# Altium schematic symbol library Burn Wire Dev Board.SchLib: 61 symbols
Pins are listed as number, name and electrical type; pins without a type are passive.

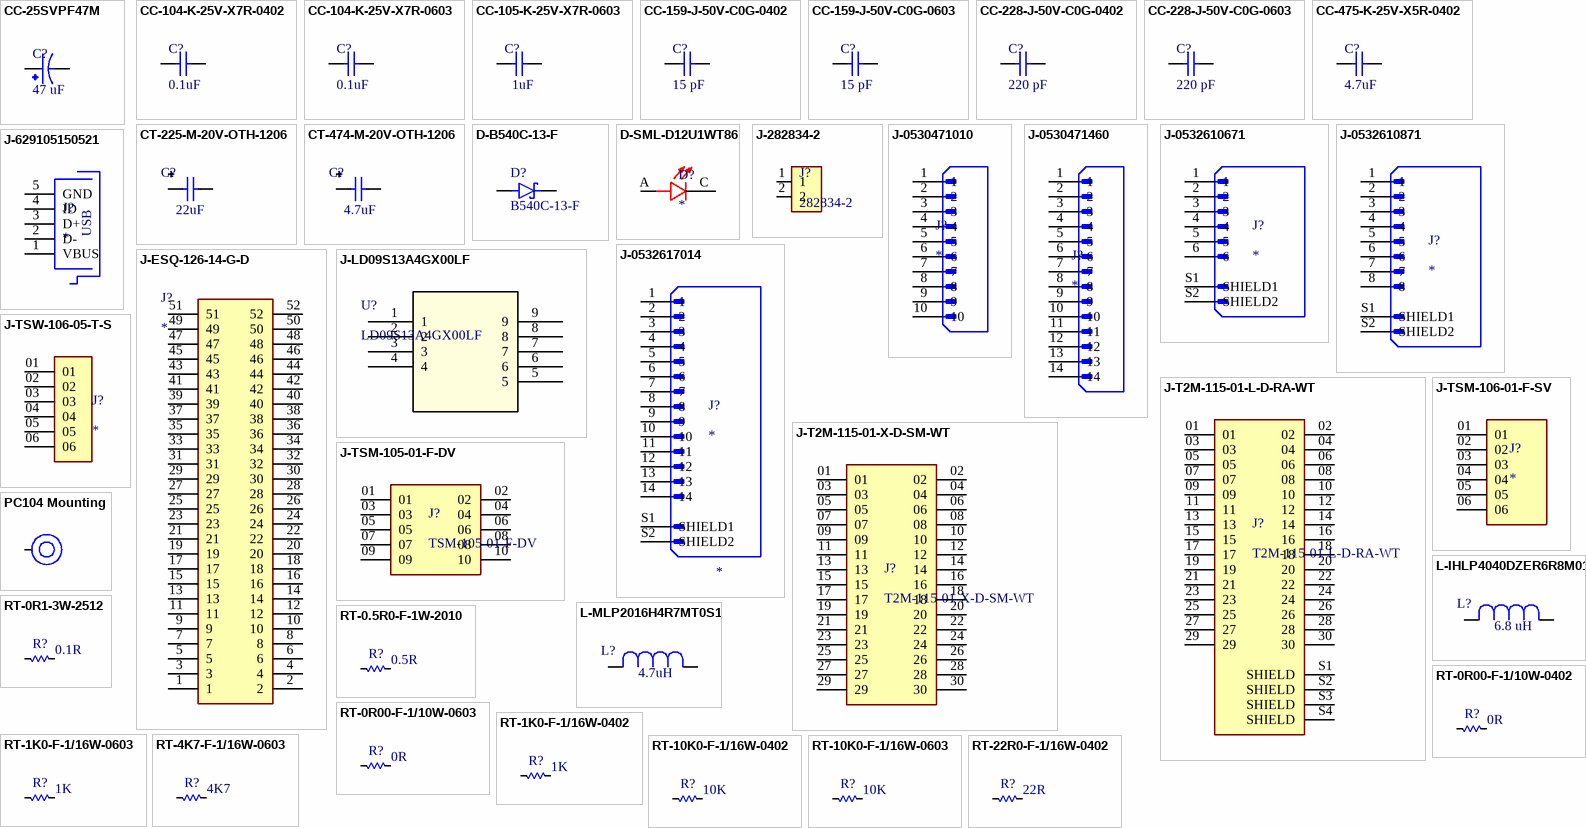
[diagram p0: symbols CC-25SVPF47M to RT-22R0-F-1/16W-0402]

## CC-25SVPF47M
designator C?, comment 47 uF
CAP ALUM POLY 47UF 20% 25V SMD; Manufacturer: Panasonic Electronic Components; Manufacturer Part #: 25SVPF47M; ComponentLink1Description: Datasheet; ComponentLink1URL: *; ComponentLink2Description: Manufacture Website; ComponentLink2URL: *; Distributor: Digikey; Distributor Part #: P16513CT-ND; Part Description: CAP ALUM POLY 47UF 20% 25V SMD; Value: 47 uF
footprint CC-25SVPF47M
pins: 1, 2

## CC-104-K-25V-X7R-0402
designator C?, comment 0.1uF
CAP CER 0.1UF 25V X7R 0402; Manufacturer: YAGEO; Manufacturer Part #: CC0402KPX7R8BB104; ComponentLink1description: Datasheet; ComponentLink1URL: https://ds.yuden.co.jp/TYCOMPAS/ut/detail?pn=TMK105BJ104KV-F%20%20&u=M; ComponentLink2description: Manufacturer Website; Distributor: Digikey; Distributor Part #: 13-CC0402KPX7R8BB104CT-ND; Part Description: CAP CER 0.1UF 25V X7R 0402; ComponentLink2URL: https://www.yuden.co.jp/or/; Value: 0.1uF
footprint 0402 (Chip Resistor, 2-Leads, Body 1,00x0,50mm, IPC Medium Density)
pins: 1, 2

## CC-104-K-25V-X7R-0603
designator C?, comment 0.1uF
0.1 µF ±10% 25V Ceramic Capacitor X7R 0603 (1608 Metric); Manufacturer: Samsung Electro-Mechanics; Manufacturer Part #: CL10B104KA8NNNC; ComponentLink1description: Datasheet; ComponentLink1URL: https://ds.yuden.co.jp/TYCOMPAS/ut/detail?pn=TMK105BJ104KV-F%20%20&u=M; ComponentLink2description: Manufacturer Website; Distributor: Digikey; Distributor Part #: 1276-1006-1-ND; Part Description: 0.1 µF ±10% 25V Ceramic Capacitor X7R 0603 (1608 Metric); ComponentLink2URL: https://www.yuden.co.jp/or/; Value: 0.1uF
footprint 0603
pins: 1, 2

## CC-105-K-25V-X7R-0603
designator C?, comment 1uF
CAP CER 1UF 25V X7R 0603; Manufacturer: Yageo; Manufacturer Part #: CC0603KRX7R8BB105; SignalCraft Part #: CC-105-K-25V-X7R-0603; ComponentLink1Description: Datasheet; ComponentLink1URL: https://www.yageo.com/upload/media/product/productsearch/datasheet/mlcc/UPY-GPHC_X7R_6.3V-to-50V_18.pdf; ComponentLink2Description: Manufacture Website; ComponentLink2URL: https://www.yageo.com/en/Home; Distributor: Digikey; Distributor Part #: 311-1802-1-ND; Part Description: CAP CER 1UF 25V X7R 0603; Value: 1uF
footprint 0603
pins: 1, 2

## CC-159-J-50V-C0G-0402
designator C?, comment 15 pF
15 pF ±1% 50V Ceramic Capacitor C0G, NP0 0402 (1005 Metric); Manufacturer: YAGEO; Manufacturer Part #: CC0402FRNPO9BN150; ComponentLink1Description: Datasheet; ComponentLink1URL: *; ComponentLink2Description: Manufacture Website; ComponentLink2URL: *; Distributor: Digikey; Distributor Part #: 311-1642-1-ND; Part Description: 15 pF ±1% 50V Ceramic Capacitor C0G, NP0 0402 (1005 Metric); Value: 15 pF
footprint 0402 (Chip Resistor, 2-Leads, Body 1,00x0,50mm, IPC Medium Density)
pins: 1, 2

## CC-159-J-50V-C0G-0603
designator C?, comment 15 pF
15 pF ±1% 50V Ceramic Capacitor C0G, NP0 0201 (0603 Metric); Manufacturer: Murata Electronics; Manufacturer Part #: GRM0335C1H150FA01D; ComponentLink1Description: Datasheet; ComponentLink1URL: *; ComponentLink2Description: Manufacture Website; ComponentLink2URL: *; Distributor: Digikey; Distributor Part #: 490-GRM0335C1H150FA01DCT-ND; Part Description: 15 pF ±1% 50V Ceramic Capacitor C0G, NP0 0201 (0603 Metric); Value: 15 pF
footprint 0603
pins: 1, 2

## CC-228-J-50V-C0G-0402
designator C?, comment 220 pF
CAP CER 220PF 50V X7R 0402; Manufacturer: YAGEO; Manufacturer Part #: CC0402KRX7R9BB221; ComponentLink1Description: Datasheet; ComponentLink1URL: *; ComponentLink2Description: Manufacture Website; ComponentLink2URL: *; Distributor: Digikey; Distributor Part #: 311-1035-1-ND; Part Description: CAP CER 220PF 50V X7R 0402; Value: 220 pF
footprint 0402 (Chip Resistor, 2-Leads, Body 1,00x0,50mm, IPC Medium Density)
pins: 1, 2

## CC-228-J-50V-C0G-0603
designator C?, comment 220 pF
15 pF ±1% 50V Ceramic Capacitor C0G, NP0 0201 (0603 Metric); Manufacturer: Samsung Electro-Mechanics; Manufacturer Part #: CL10C221JB8NNNC; ComponentLink1Description: Datasheet; ComponentLink1URL: *; ComponentLink2Description: Manufacture Website; ComponentLink2URL: *; Distributor: Digikey; Distributor Part #: 1276-1048-1-ND; Part Description: 15 pF ±1% 50V Ceramic Capacitor C0G, NP0 0201 (0603 Metric); Value: 220 pF
footprint 0603
pins: 1, 2

## CC-475-K-25V-X5R-0402
designator C?, comment 4.7uF
CAP CER 4.7UF 6.3V X5R 0402; Manufacturer: Murata Electronics; Manufacturer Part #: GRM155R60J475ME87J; ComponentLink1description: Datasheet; ComponentLink1URL: https://ds.yuden.co.jp/TYCOMPAS/ut/detail?pn=TMK105BJ104KV-F%20%20&u=M; ComponentLink2description: Manufacturer Website; Distributor: Digikey; Distributor Part #: 490-18211-1-ND; Part Description: CAP CER 4.7UF 6.3V X5R 0402; ROHS: Yes; ComponentLink2URL: https://www.yuden.co.jp/or/; Value: 4.7uF
footprint 0402 (Chip Resistor, 2-Leads, Body 1,00x0,50mm, IPC Medium Density)
pins: 1, 2

## CT-225-M-20V-OTH-1206
designator C?, comment 22uF
CAP TANT 22UF 10% 10V 1206; Manufacturer: KYOCERA AVX; Manufacturer Part #: TPSA226K010T0900; ComponentLink1Description: Datasheet; ComponentLink1URL: *; ComponentLink2Description: Manufacturer Website; ComponentLink2URL: *; Distributor: Digikey; Distributor Part #: 478-11193-1-ND; Part Description: CAP TANT 22UF 10% 10V 1206; Value: 22uF
footprint CAP TANT 1206 (A) TCJ (Cap Tant 2-Leads, EIA 1206, Metric 3216, Body 3.2x1.6mm)
pins: 1, 2

## CT-474-M-20V-OTH-1206
designator C?, comment 4.7uF
4.7 µF Molded Tantalum Capacitors 20 V 1206 (3216 Metric) 4Ohm; Manufacturer: AVX Corporation; Manufacturer Part #: TAJA475K020RNJ; ComponentLink1Description: Datasheet; ComponentLink1URL: *; ComponentLink2Description: Manufacturer Website; ComponentLink2URL: *; Distributor: Digikey; Distributor Part #: 478-1668-1-ND; Part Description: 4.7 µF Molded Tantalum Capacitors 20 V 1206 (3216 Metric) 4Ohm; Value: 4.7uF
footprint CAP TANT 1206 (A) TCJ (Cap Tant 2-Leads, EIA 1206, Metric 3216, Body 3.2x1.6mm)
pins: 1, 2

## D-B540C-13-F
designator D?, comment B540C-13-F
DIODE SCHOTTKY 40V 5A SMC; Manufacturer: Diodes Incorporated; Manufacturer Part #: B540C-13-F; Distributor Part #: B540C-FDICT-ND; Distributor: Digikey
footprint D-B540C-13-F (Footprint not found)
pins: A, C K

## D-SML-D12U1WT86
designator D?
Red 620nm LED Indication - Discrete 2.2V 0603 _1608 Metric; Manufacturer Part #: SML-D12U1WT86; Manufacturer: Rohm Semiconductor; Distributor: Digikey; Distributor Part #: SML-D12U1WT86CT-ND
footprint D-SML-D12U1WT86
pins: A, C

## J-282834-2
designator J?, comment 282834-2
TERM BLK 2P SIDE ENT 2.54MM PCB; Manufacturer: TE Connectivity AMP Connectors; Manufacturer Part #: 282834-2; Distributor Part #: A98333-ND; Distributor: Digikey
footprint J-282834-2
pins: 1, 2

## J-0530471010
designator J?
CONN HEADER VERT 10POS 1.25MM; Manufacturer: Molex; Manufacturer Part #: 0530471010; Distributor: Digikey; Distributor Part #: WM1739-ND
footprint J-0530471010
pins: 1, 2, 3, 4, 5, 6, 7, 8, 9, 10

## J-0530471460
designator J?
HDR VERT 14 CIRC 1.25 DIP TH; Manufacturer Part #: 0530471460; Manufacturer: Molex; Distributor Part #: 900-0530471460-ND; Distributor: Digikey
footprint J-0530471460
pins: 1, 2, 3, 4, 5, 6, 7, 8, 9, 10, 11, 12, 13, 14

## J-0532610671
designator J?
CONN HEADER SMD R/A 6POS 1.25MM; Manfacturer Part #: 0532610671; Manfacturer: Molex; Distributor: Digi-Key; Distributor Part #: WM7624CT-ND
footprint J-0532610671
pins: 1, 2, 3, 4, 5, 6, S1 SHIELD1, S2 SHIELD2

## J-0532610871
designator J?
CONN HEADER SMD R/A 8POS 1.25MM; Manfacturer Part #: 0532610871; Manfacturer: Molex; Distributor Part #: WM7626CT-ND; Distributor: Digi-Key
footprint J-532610871
pins: 1, 2, 3, 4, 5, 6, 7, 8, S1 SHIELD1, S2 SHIELD2

## J-0532617014
designator J?
Connector Header Surface Mount, Right Angle 14 position 0.049 (1.25mm); Manufacturer: Molex; Manufacturer Part #: 0532617014; Distributor: Digikey; Distributor Part #: 900-0532617014CT-ND; SnapEDA_Link: https://www.snapeda.com/parts/532617014/Molex/view-part/5064407/?ref=snap; 2: *
footprint J-532617014
pins: 1, 2, 3, 4, 5, 6, 7, 8, 9, 10, 11, 12, 13, 14, S1 SHIELD1, S2 SHIELD2

## J-629105150521
designator J?
CONN RCPT USB2.0 MICRO B SMD R/A; Manufacturer: Würth Elektronik; Manufacturer Part #: 629105150521; Distributor: Digikey; Distributor Part #: 732-5960-1-ND
footprint J-629105150521
pins: 1 VBUS, 2 D-, 3 D+, 4 ID, 5 GND
text: USB

## J-ESQ-126-14-G-D
designator J?
CONN SOCKET 52POS 0.1 GOLD PCB; Manufacturer: Samtec Inc.; Manufacturer Part #: ESQ-126-14-G-D; Distributor: Digikey; Distributor Part #: SAM11114-ND
footprint J-ESQ-126-14-G-D
pins: 1, 2, 3, 4, 5, 6, 7, 8, 9, 10, 11, 12, 13, 14, 15, 16, 17, 18, 19, 20, 21, 22, 23, 24, 25, 26, 27, 28, 29, 30, 31, 32, 33, 34, 35, 36, 37, 38, 39, 40, 41, 42, 43, 44, 45, 46, 47, 48, 49, 50, 51, 52

## J-LD09S13A4GX00LF
designator U?, comment LD09S13A4GX00LF
CONN D-SUB RCPT 9POS R/A SLDR; Manufacturer: Amphenol ICC (FCI); Manufacturer Part #: LD09S13A4GX00LF; Distributor: Digikey; Distributor Part #: 609-5189-ND
footprint J-LD09S13A4GX00LF
pins: 1, 2, 3, 4, 5, 6, 7, 8, 9

## J-T2M-115-01-L-D-RA-WT
designator J?, comment T2M-115-01-L-D-RA-WT
Headers & Wire Housings High Reliability Tiger Eye Discrete Wire Header, 2.00 mm Pitch; Manufacturer: Samtec Inc.; Manufacturer Part #: T2M-115-01-L-D-RA-WT; Distributor Part #: 200-T2M11501LDRAWT; Distributor: Mouser; Price: None; Value: *
footprint J-T2M-115-01-L-D-RA-WT
pins: 01, 02, 03, 04, 05, 06, 07, 08, 09, 10, 11, 12, 13, 14, 15, 16, 17, 18, 19, 20, 21, 22, 23, 24, 25, 26, 27, 28, 29, 30, S1 SHIELD, S2 SHIELD, S3 SHIELD, S4 SHIELD

## J-T2M-115-01-X-D-SM-WT
designator J?, comment T2M-115-01-X-D-SM-WT
Headers & Wire Housings High Reliability Tiger Eye Discrete Wire Header, 2.00 mm Pitch; Manufactuer: Samtec; Distributor Part #: 200-T2M11501LDSMWT; Distributor: Mouser; Manufacturer Part #: T2M-115-01-X-D-SM-WT
footprint T2M-115-01-X-D-SM-WT
pins: 01, 02, 03, 04, 05, 06, 07, 08, 09, 10, 11, 12, 13, 14, 15, 16, 17, 18, 19, 20, 21, 22, 23, 24, 25, 26, 27, 28, 29, 30

## J-TSM-105-01-F-DV
designator J?, comment TSM-105-01-F-DV
CONN HEADER SMD 10POS 2.54MM; Manufacturer: Samtec Inc.; Manufacturer Part #: TSM-105-01-F-DV; Distributor: Digikey; Distributor Part #: SAM12227-ND
footprint J-TSM-105-01-F-DV
pins: 01, 02, 03, 04, 05, 06, 07, 08, 09, 10

## J-TSM-106-01-F-SV
designator J?
CONN HEADER SMD 6POS 2.54MM; Manufacturer: Samtec Inc.; Distrbutor Part #: SAM12239-ND; Manufacturer Part #: TSM-106-01-F-SV; Distributor: Digikey
footprint J-TSM-106-01-F-SV
pins: 01, 02, 03, 04, 05, 06

## J-TSW-106-05-T-S
designator J?
CONN HEADER VERT 6POS 2.54MM; Distrbutor part #: SAM12323-ND; Manufacturer Part #: TSW-106-05-T-S; Manufacturer: Samtec; Distrbutor: None; Price: None
footprint J-TSW-106-05-T-S (Footprint not found)
pins: 01, 02, 03, 04, 05, 06

## L-IHLP4040DZER6R8M01
designator L?, comment 6.8 UH
FIXED IND 6.8UH 8A 23.3 MOHM SMD; Manufacturer: Vishay Dale; Manufacturer Part #: IHLP4040DZER6R8M01; Distributor Part #: 541-1303-1-ND; Distributor: Digikey; Value: 6.8 uH
footprint L-IHLP4040DZER6R8M01
pins: 1, 2

## L-MLP2016H4R7MT0S1
designator L?, comment 4.7uH
FIXED IND 4.7UH 1.1A 200MOHM SMD; Manufacturer: TDK; Manufacturer Part #: MLP2016H4R7MT0S1; Distributor Part #: 445-15726-1-ND; Distributor: Digikey; Value: 4.7uH
footprint 0806
pins: 1, 2

## PC104 Mounting
designator *  (value not drawn)
footprint PC104 Mounting Points
pins: 1

## RT-0.5R0-F-1W-2010
designator R?, comment 0.5R
RES 0.5 OHM 1% 1W 2010; Manufacturer: Vishay Dale; Manufacturer Part #: WSLT2010R5000FEA18; ComponentLink1description: Datasheet; ComponentLink1URL: https://www.vishay.com/docs/20035/dcrcwe3.pdf; ComponentLink2description: Manufacturer Website; Distributor: Digikey; Distributor Part #: 541-10112-1-ND; Part Description: RES 0.5 OHM 1% 1W 2010; ComponentLink2URL: https://www.vishay.com/; Value: 0.5R
footprint 2010
pins: 1, 2

## RT-0R00-F-1/10W-0402
designator R?, comment 0R
RES SMD 0 OHM JUMPER 1/10W 0402; Alternate Manufacturer: Yageo; Alternate Manufacturer Part #: RC0402JR-070RL; Manufacturer: Panasonic Electronic Components; Manufacturer Part #: ERJ-2GE0R00X; ComponentLink1description: Datasheet; ComponentLink1URL: https://industrial.panasonic.com/ww/products/resistors/chip-resistors/general-purpose-chip-resistors/models/ERJ2GE0R00X; ComponentLink2description: Manufacturer Website; Alternate Distributor Part #: 311-0.0JRCT-ND; Distributor: Digikey; Distributor Part #: P0.0JCT-ND; Part Description: RES SMD 0 OHM JUMPER 1/10W 0402; ComponentLink2URL: https://industrial.panasonic.com/ww/products/resistors/chip-resistors/general-purpose-chip-resistors/models/ERJ2GE0R00X; Value: 0R
footprint 0402 (Chip Resistor, 2-Leads, Body 1,00x0,50mm, IPC Medium Density)
pins: 1, 2

## RT-0R00-F-1/10W-0603
designator R?, comment 0R
0 Ohms Jumper 0.1W, 1/10W Chip Resistor 0603 (1608 Metric) Automotive AEC-Q200 Thick Film; Manufacturer: Stackpole Electronics Inc; Manufacturer Part #: RMCF0603ZT0R00; ComponentLink1description: Datasheet; ComponentLink1URL: https://industrial.panasonic.com/ww/products/resistors/chip-resistors/general-purpose-chip-resistors/models/ERJ2GE0R00X; ComponentLink2description: Manufacturer Website; Distributor: Digikey; Distributor Part #: RMCF0603ZT0R00CT-ND; Part Description: 0 Ohms Jumper 0.1W, 1/10W Chip Resistor 0603 (1608 Metric) Automotive AEC-Q200 Thick Film; ComponentLink2URL: https://industrial.panasonic.com/ww/products/resistors/chip-resistors/general-purpose-chip-resistors/models/ERJ2GE0R00X; Value: 0R
footprint 0603
pins: 1, 2

## RT-0R1-3W-2512
designator R?, comment 0.1R
RES 0.1 OHM 1% 3W 2512; Manufacturer: Bourns Inc.; Manufacturer Part #: CRA2512-FZ-R100ELF; ComponentLink1description: Datasheet; ComponentLink1URL: https://www.vishay.com/docs/20035/dcrcwe3.pdf; ComponentLink2description: Manufacturer Website; Distributor: Digikey; Distributor Part #: CRA2512-FZ-R100ELFCT-ND; Part Description: RES 0.1 OHM 1% 3W 2512; ComponentLink2URL: https://www.vishay.com/; Value: 0.1R
footprint 2512
pins: 1, 2

## RT-1K0-F-1/16W-0402
designator R?, comment 1K
RES 1K OHM 1% 1/16W 0402; Manufacturer: Yageo; Manufacturer Part #: RC0402FR-071KL; ComponentLink1description: Datasheet; ComponentLink1URL: https://www.vishay.com/docs/20035/dcrcwe3.pdf; ComponentLink2description: Manufacturer Website; Distributor: Digikey; Distributor Part #: 311-1.00KLRCT-ND; Part Description: RES 1K OHM 1% 1/16W 0402; ComponentLink2URL: https://www.vishay.com/; Value: 1K
footprint 0402 (Chip Resistor, 2-Leads, Body 1,00x0,50mm, IPC Medium Density)
pins: 1, 2

## RT-1K0-F-1/16W-0603
designator R?, comment 1K
RES SMD 1K OHM 1% 1/16W 0603; Manufacturer: TE Connectivity Passive Product; Manufacturer Part #: CPF0603F1K0C1; ComponentLink1description: Datasheet; ComponentLink1URL: https://www.vishay.com/docs/20035/dcrcwe3.pdf; ComponentLink2description: Manufacturer Website; Distributor: Digikey; Distributor Part #: A102226CT-ND; Part Description: RES SMD 1K OHM 1% 1/16W 0603; ComponentLink2URL: https://www.vishay.com/; Value: 1K
footprint 0603
pins: 1, 2

## RT-4K7-F-1/16W-0603
designator R?, comment 4K7
RES SMD 4.7K OHM 1% 1/10W 0603; Manufacturer: Bourns Inc.; Manufacturer Part #: CR0603-FX-4701ELF; ComponentLink1description: Datasheet; ComponentLink1URL: https://www.vishay.com/docs/20035/dcrcwe3.pdf; ComponentLink2description: Manufacturer Website; Distributor: Digikey; Distributor Part #: CR0603-FX-4701ELFCT-ND; Part Description: RES SMD 4.7K OHM 1% 1/10W 0603; ComponentLink2URL: https://www.vishay.com/; Value: 4K7
footprint 0603
pins: 1, 2

## RT-10K0-F-1/16W-0402
designator R?, comment 10K
RES SMD 10K OHM 1% 1/16W 0402; Alternate Manufacturer: Yageo; Alternate Manufacturer Part #: RC0402FR-0710KL; Manufacturer: Vishay Dale; Manufacturer Part #: CRCW040210K0FKED; ComponentLink1description: Datasheet; ComponentLink1URL: https://www.vishay.com/docs/20035/dcrcwe3.pdf; ComponentLink2description: Manufacturer Website; Alternate Distributor Part #: 311-10.0KLRCT-ND; Distributor: Digikey; Distributor Part #: 541-10.0KLCT-ND; Part Description: RES SMD 10K OHM 1% 1/16W 0402; ComponentLink2URL: https://www.vishay.com/; Value: 10K
footprint 0402 (Chip Resistor, 2-Leads, Body 1,00x0,50mm, IPC Medium Density)
pins: 1, 2

## RT-10K0-F-1/16W-0603
designator R?, comment 10K
RES 10K OHM 1% 1/8W 0603; Manufacturer: Stackpole Electronics Inc; Manufacturer Part #: RNCP0603FTD10K0; ComponentLink1description: Datasheet; ComponentLink1URL: https://www.vishay.com/docs/20035/dcrcwe3.pdf; ComponentLink2description: Manufacturer Website; Distributor: Digikey; Distributor Part #: RNCP0603FTD10K0CT-ND; Part Description: RES 10K OHM 1% 1/8W 0603; ComponentLink2URL: https://www.vishay.com/; Value: 10K
footprint 0603
pins: 1, 2

## RT-22R0-F-1/16W-0402
designator R?, comment 22R
RES SMD 22 OHM 1% 1/16W 0402; Alternate Manufacturer: Yageo; Alternate Manufacturer Part #: RC0402FR-0722RL; Manufacturer: Vishay Dale; Manufacturer Part #: CRCW040222R0FKED; ComponentLink1description: Datasheet; ComponentLink1URL: https://www.vishay.com/docs/20035/dcrcwe3.pdf; ComponentLink2description: Manufacturer Website; Alternate Distributor Part #: 311-22.0LRCT-ND; Distributor: Digikey; Distributor Part #: 541-22.0LCT-ND; Part Description: RES SMD 22 OHM 1% 1/16W 0402; ComponentLink2URL: https://www.vishay.com/; Value: 22R
footprint 0402 (Chip Resistor, 2-Leads, Body 1,00x0,50mm, IPC Medium Density)
pins: 1, 2

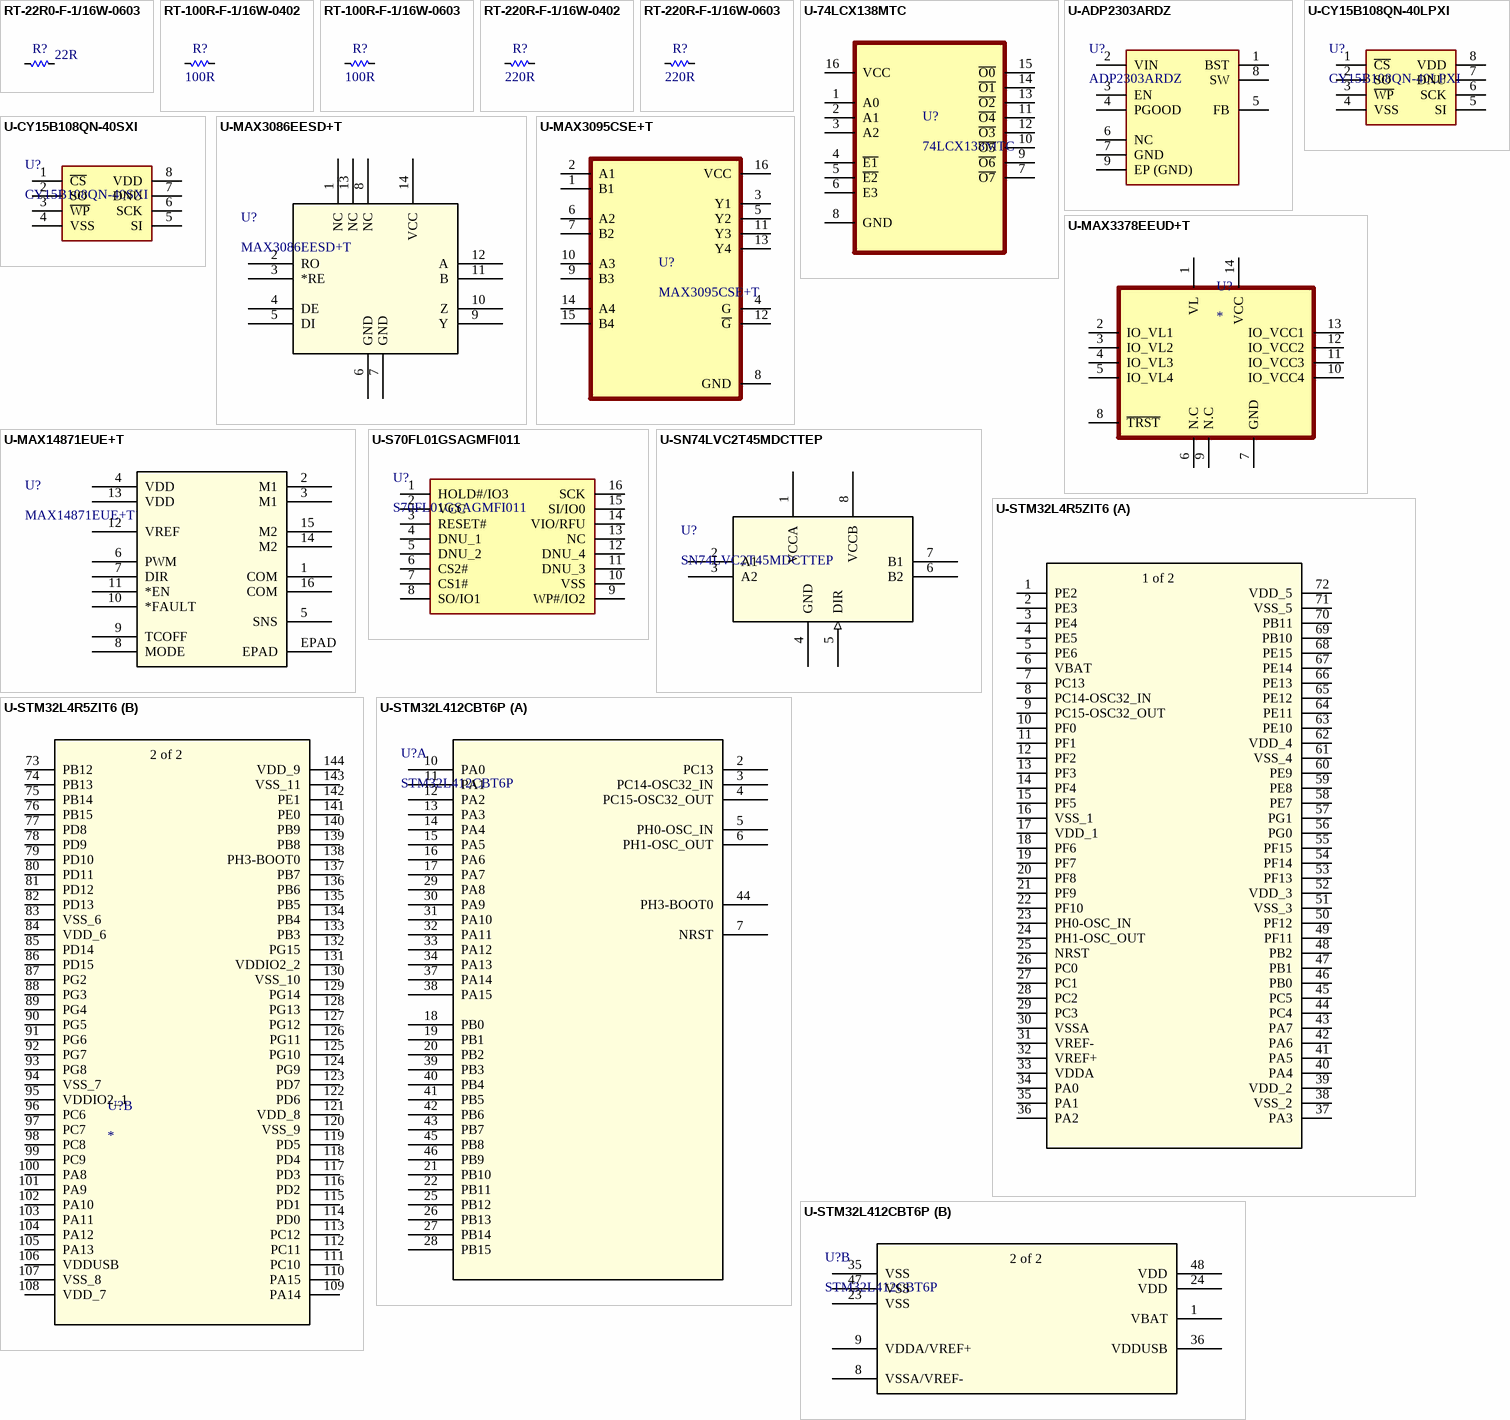
[diagram p1: symbols RT-22R0-F-1/16W-0603 to U-STM32L412CBT6P]

## RT-22R0-F-1/16W-0603
designator R?, comment 22R
22 Ohms ±0.5% 0.063W, 1/16W Chip Resistor 0603 (1608 Metric) - Thin Film; Manufacturer: Susumu; Manufacturer Part #: RR0816Q-220-D; ComponentLink1description: Datasheet; ComponentLink1URL: https://www.vishay.com/docs/20035/dcrcwe3.pdf; ComponentLink2description: Manufacturer Website; Distributor: Digikey; Distributor Part #: RR08Q22DCT-ND; Part Description: 22 Ohms ±0.5% 0.063W, 1/16W Chip Resistor 0603 (1608 Metric) - Thin Film; ComponentLink2URL: https://www.vishay.com/; Value: 22R
footprint 0603
pins: 1, 2

## RT-100R-F-1/16W-0402
designator R?, comment 100R
RES SMD 100 OHM 1% 1/16W 0402; Manufacturer: Yageo; Manufacturer Part #: RT0402FRE07100RL; Distributor: Digikey; Distributor Part #: YAG3342CT-ND; Part Description: RES SMD 100 OHM 1% 1/16W 0402; Value: 100R
footprint 0402 (Chip Resistor, 2-Leads, Body 1,00x0,50mm, IPC Medium Density)
pins: 1, 2

## RT-100R-F-1/16W-0603
designator R?, comment 100R
RES SMD 100 OHM 0.5% 1/16W 0603; Manufacturer: Susumu; Manufacturer Part #: RR08P100DCT-ND; Distributor: Digikey; Distributor Part #: RR08P100DCT-ND; Part Description: RES SMD 100 OHM 0.5% 1/16W 0603; Value: 100R
footprint 0603
pins: 1, 2

## RT-220R-F-1/16W-0402
designator R?, comment value 220R  (hidden comment: 100R)
RES 220 OHM 5% 1/16W 0402; Manufacturer: Yageo; Manufacturer Part #: RC0402JR-07220RL; Distributor: Digikey; Distributor Part #: 311-220JRCT-ND; Part Description: RES 220 OHM 5% 1/16W 0402
footprint 0402 (Chip Resistor, 2-Leads, Body 1,00x0,50mm, IPC Medium Density)
pins: 1, 2

## RT-220R-F-1/16W-0603
designator R?, comment 220R
220 Ohms ±0.5% 0.063W, 1/16W Chip Resistor 0603 (1608 Metric) - Thin Film; Manufacturer: Susumu; Manufacturer Part #: RR0816P-221-D; Distributor: Digikey; Distributor Part #: RR08P220DCT-ND; Part Description: 220 Ohms ±0.5% 0.063W, 1/16W Chip Resistor 0603 (1608 Metric) - Thin Film; Value: 220R
footprint 0603
pins: 1, 2

## U-74LCX138MTC
designator U?, comment 74LCX138MTC
IC DECODER/DEMUX 1X3:8 16TSSOP; Manufacturer: onsemi; Manufacturer Part #: 74LCX138MTC; Distributor: Digikey; Distributor Part #: 74LCX138MTC-ND
footprint U-74LCX138MTC
pins: 1 A0, 2 A1, 3 A2, 4 ~{E1}, 5 ~{E2}, 6 E3, 7 ~{O7}, 8 GND, 9 ~{O6}, 10 ~{O5}, 11 ~{O4}, 12 ~{O3}, 13 ~{O2}, 14 ~{O1}, 15 ~{O0}, 16 VCC

## U-ADP2303ARDZ
designator U?, comment ADP2303ARDZ
IC REG BUCK ADJUSTABLE 3A 8SOIC; Manufacturer: Analog Devices Inc.; Manufacturer Part #: ADP2303ARDZ; Distributor: Digikey; Distributor Part #: 505-ADP2303ARDZ-ND
footprint U-ADP2303ARDZ
pins: 1 BST, 2 VIN, 3 EN, 4 PGOOD, 5 FB, 6 NC, 7 GND, 8 SW, 9 EP (GND)

## U-CY15B108QN-40LPXI
designator U?, comment CY15B108QN-40LPXI
IC FRAM 8MBIT SPI 40MHZ 8GQFN; Manufacturer: Cypress Semiconductor; Manufacturer Part #: CY15B108QN-40LPXI; Distributor: Digikey; Distributor Part #: 428-4723-ND
footprint U-CY15B108QN-40LPXI
pins: 1 ~{CS}, 2 SO, 3 ~{WP}, 4 VSS, 5 SI, 6 SCK, 7 DNU, 8 VDD

## U-CY15B108QN-40SXI
designator U?, comment CY15B108QN-40SXI
IC FRAM 8MBIT SPI 40MHZ 8SOIC; Manufacturer: Cypress Semiconductor; Manufacturer Part #: CY15B108QN-40SXI; Distributor: Digikey; Distributor Part #: 428-4717-ND
footprint U-CY15B108QN-40SXI
pins: 1 ~{CS}, 2 SO, 3 ~{WP}, 4 VSS, 5 SI, 6 SCK, 7 DNU, 8 VDD

## U-MAX3086EESD+T
designator U?, comment MAX3086EESD+T
IC TRANSCEIVER FULL 1/1 14SOIC; Manufacturer: Maxim Integrated Products; Manufacturer Part #: MAX3086EESD+T; Distributor: Digikey; Distributor Part #: MAX3086EESD+TCT-ND; Type: DEV
footprint U-MAX3086EESD+T
pins: 1 NC, 2 RO, 3 *RE, 4 DE, 5 DI, 6 GND (power), 7 GND (power), 8 NC, 9 Y, 10 Z, 11 B, 12 A, 13 NC, 14 VCC (power)

## U-MAX3095CSE+T
designator U?, comment MAX3095CSE+T
IC RECEIVER 0/4 16SO; Manufacturer: Maxim Integrated; Distributor Part #: MAX3095CSE+TCT-ND; Distributor: Digikey; Manufacturer Part #: MAX3095CSE+T
footprint U-MAX3095CSE+T
pins: 1 B1, 2 A1, 3 Y1, 4 G, 5 Y2, 6 A2, 7 B2, 8 GND, 9 B3, 10 A3, 11 Y3, 12 ~{G}, 13 Y4, 14 A4, 15 B4, 16 VCC

## U-MAX3378EEUD+T
designator U?
IC TRNSLTR BIDIRECTIONAL 14TSSOP; Manufacturer Part #: MAX3378EEUD+T; Manufacturer: Maxim Integrated; Distributor: Digikey; Distributor Part #: MAX3378EEUD+TCT-ND
footprint U-MAX3378EEUD+T
pins: 1 VL (power), 2 IO_VL1, 3 IO_VL2, 4 IO_VL3, 5 IO_VL4, 6 N.C, 7 GND, 8 ~{TRST}, 9 N.C, 10 IO_VCC4, 11 IO_VCC3, 12 IO_VCC2, 13 IO_VCC1, 14 VCC (power)

## U-MAX14871EUE+T
designator U?, comment MAX14871EUE+T
IC MOTOR DRIVER 4.5V-36V 16TSSOP; Manufacturer: Maxim Integrated Products; Manufacturer Part #: MAX14871EUE+T; Distributor Part #: MAX14871EUE+CT-ND; Distributor: Digikey
footprint U-MAX14871EUE+T
pins: 1 COM, 2 M1, 3 M1, 4 VDD, 5 SNS, 6 PWM, 7 DIR, 8 MODE, 9 TCOFF, 10 *FAULT, 11 *EN, 12 VREF, 13 VDD, 14 M2, 15 M2, 16 COM, EPAD

## U-S70FL01GSAGMFI011
designator U?, comment S70FL01GSAGMFI011
IC FLASH 1GBIT SPI/QUAD 16SOIC; Manufacturer: Cypress Semiconductor; Manufacturer Part #: S70FL01GSAGMFI011; Distributor: Digikey; Distributor Part #: 1274-1092-ND
footprint U-S70FL01GSAGMFI011
pins: 1 HOLD#/IO3, 2 VCC, 3 RESET#, 4 DNU_1, 5 DNU_2, 6 CS2#, 7 CS1#, 8 SO/IO1, 9 WP#/IO2, 10 VSS, 11 DNU_3, 12 DNU_4, 13 NC, 14 VIO/RFU, 15 SI/IO0, 16 SCK

## U-SN74LVC2T45MDCTTEP
designator U?, comment SN74LVC2T45MDCTTEP
IC TRNSLTR BIDIRECTIONAL SM8; Manufactuer: Texas Instruments; Distributor: Digikey; Manufacturer Part Number: SN74LVC2T45MDCTTEP; Distributor Part Number: 296-23952-1-ND; Type: DEV
footprint U-SN74LVC2T45MDCTTEP
pins: 1 VCCA (power), 2 A1, 3 A2, 4 GND (power), 5 DIR (in), 6 B2, 7 B1, 8 VCCB (power)

## U-STM32L4R5ZIT6
designator U?
IC MCU 32BIT 2MB FLASH 144LQFP; Manufacturer: STMicroelectronics; Manufacturer Part #: STM32L4R5ZIT6; Distributor: Mouser; Mouser Part Number: 511-STM32L4R5ZIT6P
footprint U-STM32L4R5ZIT6
part A pins: 1 PE2, 2 PE3, 3 PE4, 4 PE5, 5 PE6, 6 VBAT, 7 PC13, 8 PC14-OSC32_IN, 9 PC15-OSC32_OUT, 10 PF0, 11 PF1, 12 PF2, 13 PF3, 14 PF4, 15 PF5, 16 VSS_1, 17 VDD_1, 18 PF6, 19 PF7, 20 PF8, 21 PF9, 22 PF10, 23 PH0-OSC_IN, 24 PH1-OSC_OUT, 25 NRST, 26 PC0, 27 PC1, 28 PC2, 29 PC3, 30 VSSA, 31 VREF-, 32 VREF+, 33 VDDA, 34 PA0, 35 PA1, 36 PA2, 37 PA3, 38 VSS_2, 39 VDD_2, 40 PA4, 41 PA5, 42 PA6, 43 PA7, 44 PC4, 45 PC5, 46 PB0, 47 PB1, 48 PB2, 49 PF11, 50 PF12, 51 VSS_3, 52 VDD_3, 53 PF13, 54 PF14, 55 PF15, 56 PG0, 57 PG1, 58 PE7, 59 PE8, 60 PE9, 61 VSS_4, 62 VDD_4, 63 PE10, 64 PE11, 65 PE12, 66 PE13, 67 PE14, 68 PE15, 69 PB10, 70 PB11, 71 VSS_5, 72 VDD_5
part B pins: 73 PB12, 74 PB13, 75 PB14, 76 PB15, 77 PD8, 78 PD9, 79 PD10, 80 PD11, 81 PD12, 82 PD13, 83 VSS_6, 84 VDD_6, 85 PD14, 86 PD15, 87 PG2, 88 PG3, 89 PG4, 90 PG5, 91 PG6, 92 PG7, 93 PG8, 94 VSS_7, 95 VDDIO2_1, 96 PC6, 97 PC7, 98 PC8, 99 PC9, 100 PA8, 101 PA9, 102 PA10, 103 PA11, 104 PA12, 105 PA13, 106 VDDUSB, 107 VSS_8, 108 VDD_7, 109 PA14, 110 PA15, 111 PC10, 112 PC11, 113 PC12, 114 PD0, 115 PD1, 116 PD2, 117 PD3, 118 PD4, 119 PD5, 120 VSS_9, 121 VDD_8, 122 PD6, 123 PD7, 124 PG9, 125 PG10, 126 PG11, 127 PG12, 128 PG13, 129 PG14, 130 VSS_10, 131 VDDIO2_2, 132 PG15, 133 PB3, 134 PB4, 135 PB5, 136 PB6, 137 PB7, 138 PH3-BOOT0, 139 PB8, 140 PB9, 141 PE0, 142 PE1, 143 VSS_11, 144 VDD_9
part A text: 1 of 2
part B text: 2 of 2

## U-STM32L412CBT6P
designator U?, comment STM32L412CBT6P
IC MCU 32BIT 128KB FLASH 48LQFP; Manufacturer: STMicroelectronics; Manufacturer Part #: STM32L412CBT6P; Distributor: Digikey; Distributor Part #: STM32L412CBT6P-ND
footprint U-STM32L412CBT6P
part A pins: 2 PC13, 3 PC14-OSC32_IN, 4 PC15-OSC32_OUT, 5 PH0-OSC_IN, 6 PH1-OSC_OUT, 7 NRST, 10 PA0, 11 PA1, 12 PA2, 13 PA3, 14 PA4, 15 PA5, 16 PA6, 17 PA7, 18 PB0, 19 PB1, 20 PB2, 21 PB10, 22 PB11, 25 PB12, 26 PB13, 27 PB14, 28 PB15, 29 PA8, 30 PA9, 31 PA10, 32 PA11, 33 PA12, 34 PA13, 37 PA14, 38 PA15, 39 PB3, 40 PB4, 41 PB5, 42 PB6, 43 PB7, 44 PH3-BOOT0, 45 PB8, 46 PB9
part B pins: 1 VBAT, 8 VSSA/VREF-, 9 VDDA/VREF+, 23 VSS, 24 VDD, 35 VSS, 36 VDDUSB, 47 VSS, 48 VDD
part B text: 2 of 2

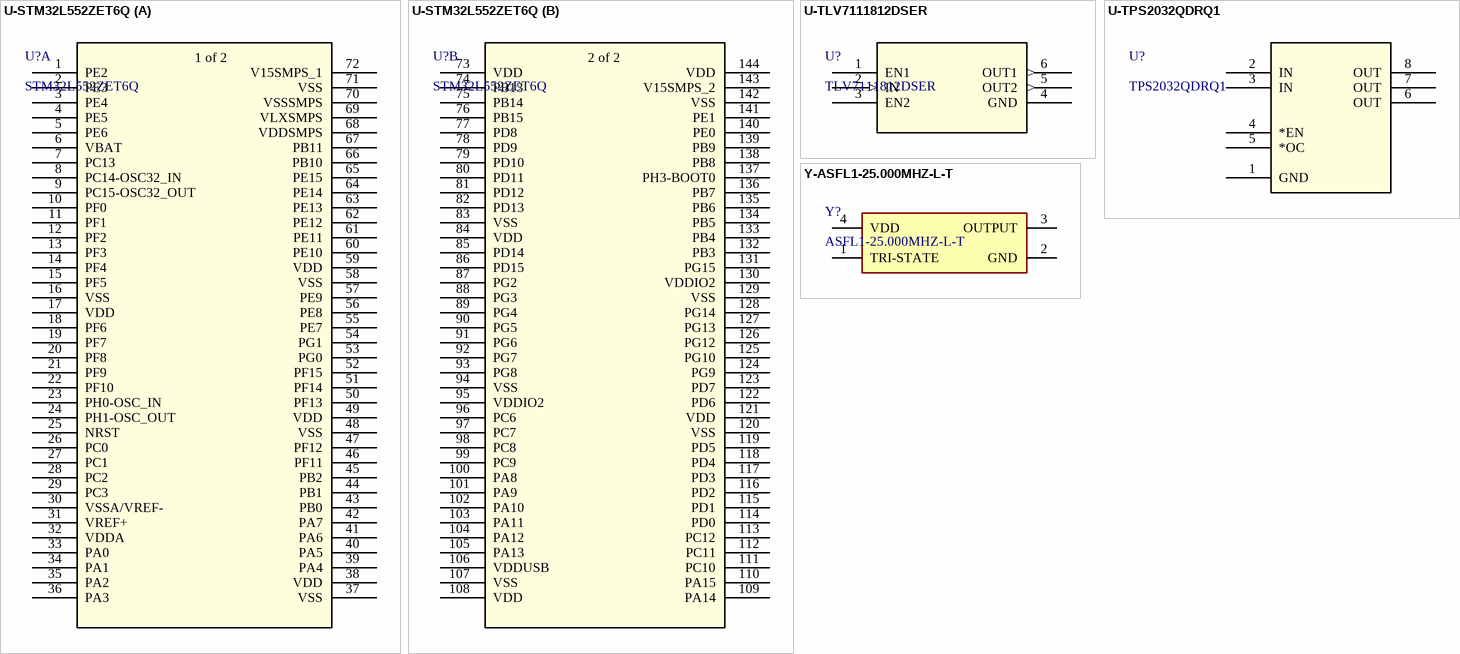
[diagram p2: symbols U-STM32L552ZET6Q to Y-ASFL1-25.000MHZ-L-T]

## U-STM32L552ZET6Q
designator U?, comment STM32L552ZET6Q
IC MCU 32BIT 256KB FLASH 144LQFP; Manufacturer: STMicroelectronics; Distributor: Distributor Part #; Manufacturer Part #: STM32L552ZET6Q; Distributor Part #: 497-STM32L552ZET6Q-ND
footprint LQFP-144
part A pins: 1 PE2, 2 PE3, 3 PE4, 4 PE5, 5 PE6, 6 VBAT, 7 PC13, 8 PC14-OSC32_IN, 9 PC15-OSC32_OUT, 10 PF0, 11 PF1, 12 PF2, 13 PF3, 14 PF4, 15 PF5, 16 VSS, 17 VDD, 18 PF6, 19 PF7, 20 PF8, 21 PF9, 22 PF10, 23 PH0-OSC_IN, 24 PH1-OSC_OUT, 25 NRST, 26 PC0, 27 PC1, 28 PC2, 29 PC3, 30 VSSA/VREF-, 31 VREF+, 32 VDDA, 33 PA0, 34 PA1, 35 PA2, 36 PA3, 37 VSS, 38 VDD, 39 PA4, 40 PA5, 41 PA6, 42 PA7, 43 PB0, 44 PB1, 45 PB2, 46 PF11, 47 PF12, 48 VSS, 49 VDD, 50 PF13, 51 PF14, 52 PF15, 53 PG0, 54 PG1, 55 PE7, 56 PE8, 57 PE9, 58 VSS, 59 VDD, 60 PE10, 61 PE11, 62 PE12, 63 PE13, 64 PE14, 65 PE15, 66 PB10, 67 PB11, 68 VDDSMPS, 69 VLXSMPS, 70 VSSSMPS, 71 VSS, 72 V15SMPS_1
part B pins: 73 VDD, 74 PB13, 75 PB14, 76 PB15, 77 PD8, 78 PD9, 79 PD10, 80 PD11, 81 PD12, 82 PD13, 83 VSS, 84 VDD, 85 PD14, 86 PD15, 87 PG2, 88 PG3, 89 PG4, 90 PG5, 91 PG6, 92 PG7, 93 PG8, 94 VSS, 95 VDDIO2, 96 PC6, 97 PC7, 98 PC8, 99 PC9, 100 PA8, 101 PA9, 102 PA10, 103 PA11, 104 PA12, 105 PA13, 106 VDDUSB, 107 VSS, 108 VDD, 109 PA14, 110 PA15, 111 PC10, 112 PC11, 113 PC12, 114 PD0, 115 PD1, 116 PD2, 117 PD3, 118 PD4, 119 PD5, 120 VSS, 121 VDD, 122 PD6, 123 PD7, 124 PG9, 125 PG10, 126 PG12, 127 PG13, 128 PG14, 129 VSS, 130 VDDIO2, 131 PG15, 132 PB3, 133 PB4, 134 PB5, 135 PB6, 136 PB7, 137 PH3-BOOT0, 138 PB8, 139 PB9, 140 PE0, 141 PE1, 142 VSS, 143 V15SMPS_2, 144 VDD
part A text: 1 of 2
part B text: 2 of 2

## U-TLV7111812DSER
designator U?, comment TLV7111812DSER
IC REG LIN 1.8V/1.2V 200MA 6WSON; Manufacturer: Texas Instruments; Distrbutor Part #: 296-35050-1-ND; Manufacturer Part #: TLV7111812DSER; Distributor: Digikey; Digi-Key_Part_Number_3: 296-35050-6-ND; Digi-Key_Part_Number_4: 2156-TLV7111812DSER-ND; RefDes: RefDes; Type: DEV
footprint U-TLV7111812DSER
pins: 1 EN1, 2 IN (in), 3 EN2, 4 GND (power), 5 OUT2 (out), 6 OUT1 (out)

## U-TPS2032QDRQ1
designator U?, comment TPS2032QDRQ1
IC PWR SWITCH N-CHAN 1:1 8SOIC 1A; Manufacturer: Texas Instruments; Manufacturer Part #: TPS2032QDRQ1; Distributor Part #: 296-24850-1-ND; Distributor: Digikey; RefDes: RefDes; Type: DEV
footprint U-TPS2055AD
pins: 1 GND, 2 IN, 3 IN, 4 *EN, 5 *OC, 6 OUT, 7 OUT, 8 OUT

## Y-ASFL1-25.000MHZ-L-T
designator Y?, comment ASFL1-25.000MHZ-L-T
XTAL OSC XO 25.0000MHZ HCMOS TTL; Manufacturer: ABRACON; Manufacturer Part #: ASFL1-25.000MHZ-L-T; Distributor: Digikey; Distributor Part #: 535-10819-1-ND
footprint Y-ASFL125000MHZLT
pins: 1 TRI-STATE, 2 GND, 3 OUTPUT, 4 VDD